# Altium footprint library LIBRARIE_EMILE.PcbLib: 20 footprints (part 2 of 2)
Each footprint in its own frame and in the unit in brackets; x right, y up, seen from the top. Pads: shape width x height; smd on the part's side, far side on the other; paste and mask are expansions set on the pad; w line width, h text height; cw(c..) or ccw(c..) is an arc to the next point about the centre after c.
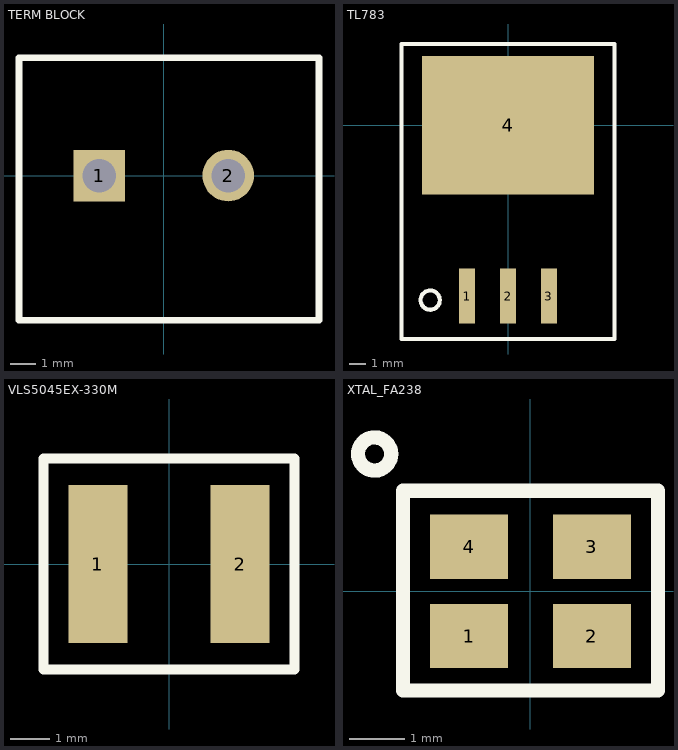
[diagram p1: the footprints below, top view; thin cyan lines are the x and y axes]

## TERM BLOCK [mm]
pads (2):
  rect 2x2 hole 1.3 paste-0.025 mask+0.07: 1(-2.5,0)
  round 2 hole 1.3 paste-0.025 mask+0.07: 2(2.5,0)
Top Overlay:
  lines w0.254: -5.613,-5.613 6.02,-5.613 6.02,4.572 -5.613,4.572 -5.613,-5.613
3D body "1935161--3DModel-STEP-56544.STEP": height 11.7, standoff -3.2, extent -5.014,-5.036 5.386,3.964

## TL783 [mm] "TO-263-4"
pads (4):
  rect 1x3.4 smd paste-0.05 mask+0.07: 1(-2.54,-10.6) 2(0,-10.6) 3(2.54,-10.6)
  rect 10.7x8.6 smd paste-0.05 mask+0.07: 4(0,0)
Top Overlay:
  circle w0.254: c-4.826,-10.846 r0.598
  lines w0.254: -6.604,-13.259 6.604,-13.259 6.604,5.029 -6.604,5.029 -6.604,-13.259
3D body "ktt3.step": height 1.7, standoff -0.05, extent -5.283,-10.16 5.385,2.111

## VLS5045EX-330M [mm]
pads (2):
  rect 1.5x4 smd paste-0.025 mask+0.07: 1(-1.8,0) 2(1.8,0)
Top Overlay:
  lines w0.254: -3.175,-2.667 3.175,-2.667 3.175,2.667 -3.175,2.667 -3.175,-2.667
3D body "vls5045ex.step": height 4.49, standoff -0.01, extent -2.5,-2.5 2.5,2.5

## XTAL_FA238 [mm]
pads (4):
  rect 1.4x1.15 smd mask+0.07: 1(-1.1,-0.8) 2(1.1,-0.8) 3(1.1,0.8) 4(-1.1,0.8)
Top Overlay:
  circle w0.254: c-2.794,2.464 r0.297
  lines w0.254: -2.286,-1.778 2.286,-1.778 2.286,1.803 -2.286,1.803 -2.286,-1.778
3D body "Crys_Epson_FA-238_27.0000MB-C3_eec.STEP": height 0.67, standoff 0.02, extent -1.6,-1.244 1.6,1.256